# EAGLE library part ADL5380 (library mr_radar)
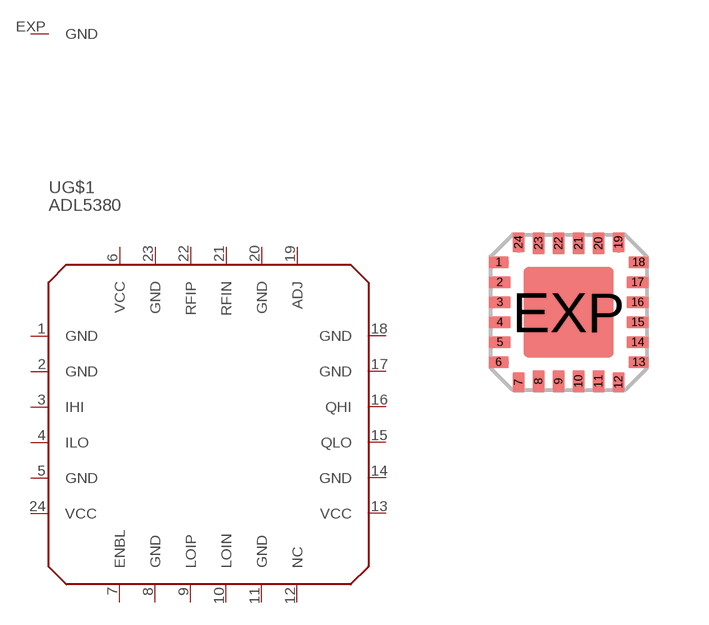
[diagram p1: symbol with the pads of LFCSP24; footprint LFCSP24]

Designator prefix -; gates G$1=ADL5380 G$2=GND

## ADL5380  [LFCSP24]
1  G$1:GND  pwr
2  G$1:GND  pwr
3  G$1:IHI  out
4  G$1:ILO  out
5  G$1:GND  pwr
6  G$1:VCC  pwr
7  G$1:ENBL  in
8  G$1:GND  pwr
9  G$1:LOIP  in
10  G$1:LOIN  in
11  G$1:GND  pwr
12  G$1:NC  nc
13  G$1:VCC  pwr
14  G$1:GND  pwr
15  G$1:QLO  in
16  G$1:QHI  in
17  G$1:GND  pwr
18  G$1:GND  pwr
19  G$1:ADJ  in
20  G$1:GND  pwr
21  G$1:RFIN  in
22  G$1:RFIP  in
23  G$1:GND  pwr
24  G$1:VCC  pwr
EXP  G$2:GND  pwr

## Footprint LFCSP24 (pad centres in mm)
24-Lead Lead Frame Chip Scale Package 4 mm × 4 mm (CP-24) Source: www.analog.com .. 3832984220209AD8133_0.pdf
smd 0.5 x 0.3: 1 -1.75,1.25; 6 -1.75,-1.25; 13 1.75,-1.25; 18 1.75,1.25
smd 0.55 x 0.3: 2 -1.725,0.75; 3 -1.725,0.25; 4 -1.725,-0.25; 5 -1.725,-0.75; 14 1.725,-0.75; 15 1.725,-0.25; 16 1.725,0.25; 17 1.725,0.75
smd 0.3 x 0.5: 7 -1.25,-1.75; 12 1.25,-1.75; 19 1.25,1.75; 24 -1.25,1.75
smd 0.3 x 0.55: 8 -0.75,-1.725; 9 -0.25,-1.725; 10 0.25,-1.725; 11 0.75,-1.725; 20 0.75,1.725; 21 0.25,1.725; 22 -0.25,1.725; 23 -0.75,1.725
smd 2.25 x 2.25: EXP 0,0